# EAGLE library part RA-02 (library AI-THINKER)
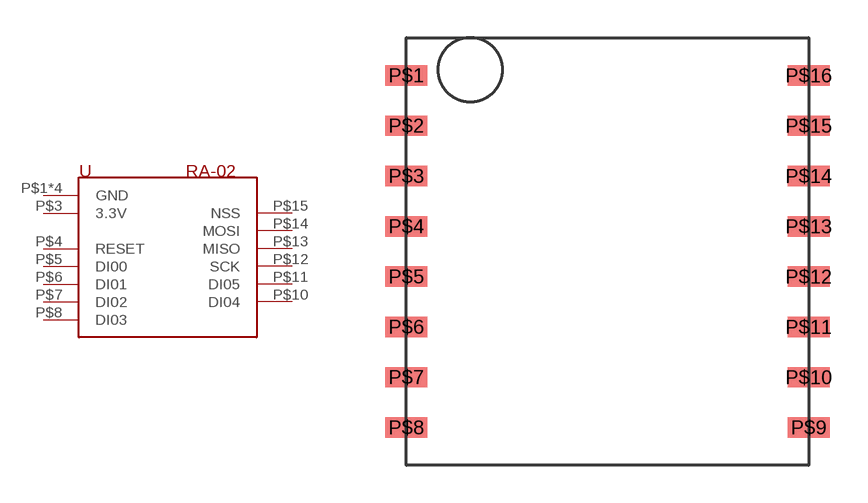
[diagram p0: symbol with the pads of RA-02; footprint RA-02]

Designator prefix -

## RA-02  [RA-02]
P$1  GND
P$2  GND
P$3  3.3V
P$4  RESET
P$5  DI00
P$6  DI01
P$7  DI02
P$8  DI03
P$9  GND
P$10  DI04
P$11  DI05
P$12  SCK
P$13  MISO
P$14  MOSI
P$15  NSS
P$16  GND

## Footprint RA-02 (pad centres in mm)
smd 1.676 x 0.813: P$1 0,-1.5; P$2 0,-3.5; P$3 0,-5.5; P$4 0,-7.5; P$5 0,-9.5; P$6 0,-11.5; P$7 0,-13.5; P$8 0,-15.5; P$9 16,-15.5; P$10 16,-13.5; P$11 16,-11.5; P$12 16,-9.5; P$13 16,-7.5; P$14 16,-5.5; P$15 16,-3.5; P$16 16,-1.5